# EAGLE library part TDA7563A (library tda7563a)
ST audio amplifier
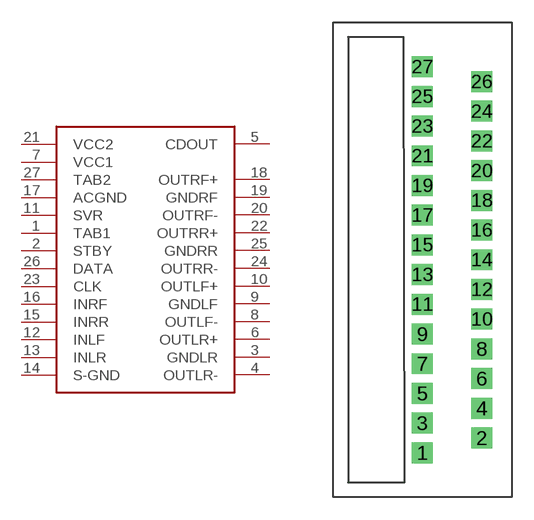
[diagram p0: symbol with the pads of TDA7563; footprint TDA7563]

Designator prefix -

## TDA7563A (A: ?)  [TDA7563]
1  TAB1
2  STBY
3  GNDLR
4  OUTLR-
5  CDOUT
6  OUTLR+
7  VCC1  in
8  OUTLF-
9  GNDLF
10  OUTLF+
11  SVR
12  INLF
13  INLR
14  S-GND
15  INRR
16  INRF
17  ACGND
18  OUTRF+
19  GNDRF
20  OUTRF-
21  VCC2
22  OUTRR+
23  CLK
24  OUTRR-
25  GNDRR
26  DATA
27  TAB2

## Footprint TDA7563 (pad centres in mm)
drill 0.9 square: 1 5,2; 2 9,3; 3 5,4; 4 9,5; 5 5,6; 6 9,7; 7 5,8; 8 9,9; 9 5,10; 10 9,11; 11 5,12; 12 9,13; 13 5,14; 14 9,15; 15 5,16; 16 9,17; 17 5,18; 18 9,19; 19 5,20; 20 9,21; 21 5,22; 22 9,23; 23 5,24; 24 9,25; 25 5,26; 26 9,27; 27 5,28